# Altium footprint library SOP.PcbLib: 27 footprints (part 2 of 2)
Each footprint in its own frame and in the unit in brackets; x right, y up, seen from the top. Pads: shape width x height; smd on the part's side, far side on the other; paste and mask are expansions set on the pad; w line width, h text height; cw(c..) or ccw(c..) is an arc to the next point about the centre after c.
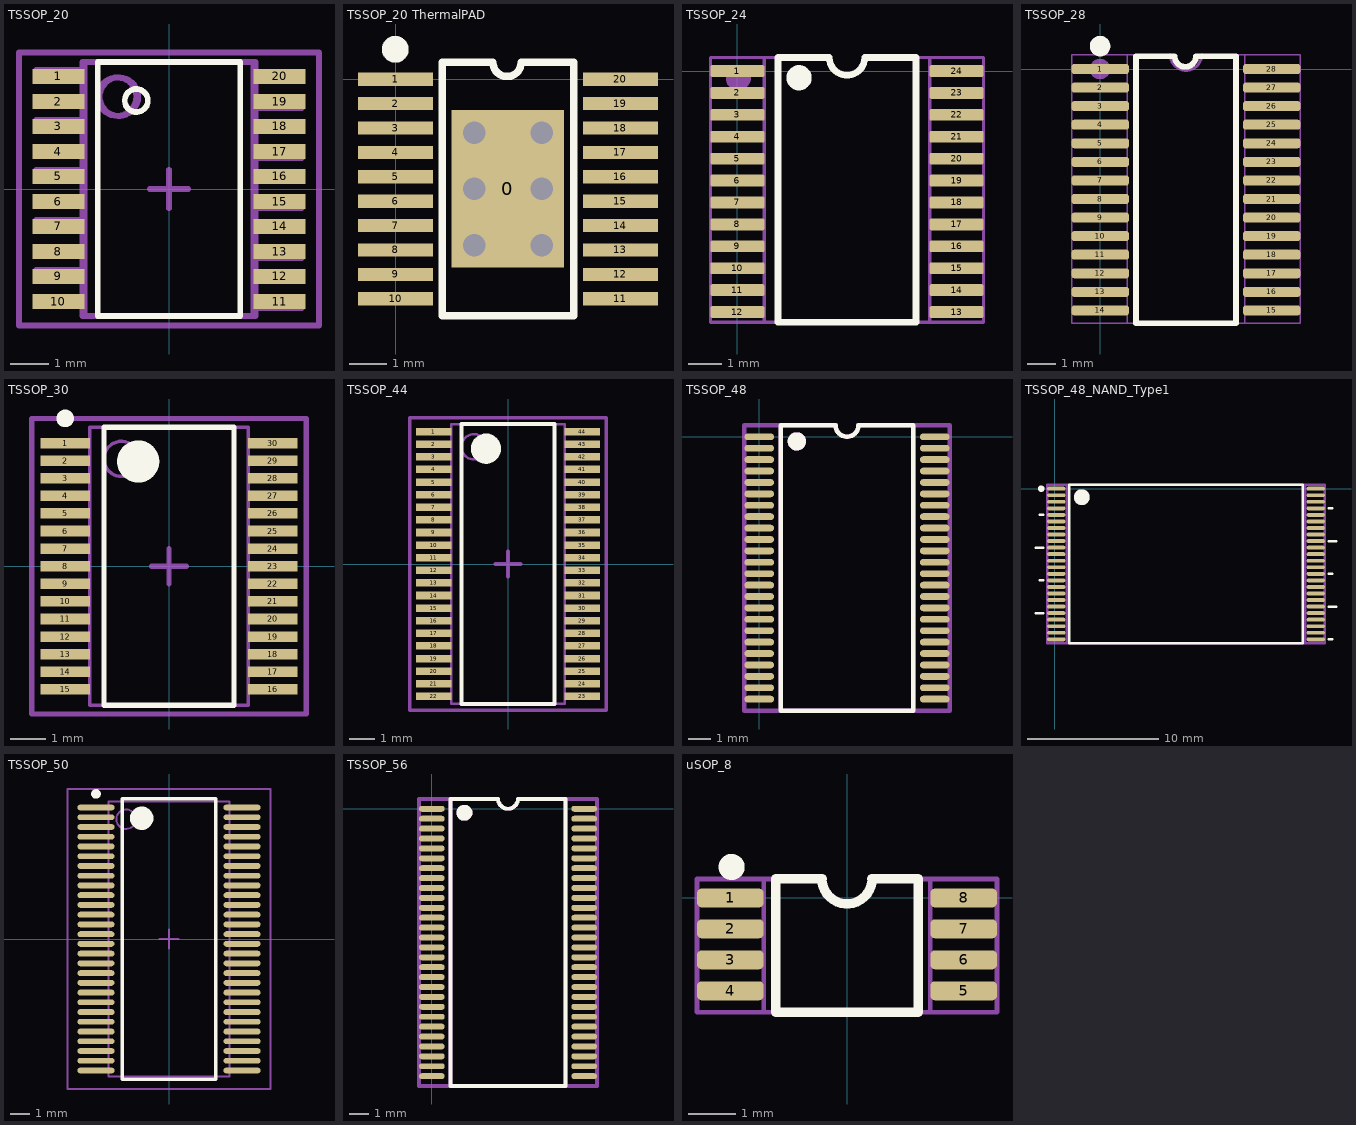
[diagram p1: the footprints below, top view; thin cyan lines are the x and y axes]

## TSSOP_20 [mm] "TSSOP, 20-Leads, Body 6,50x4,40mm, Pitch 0,65mm, IPC Medium Density"
height 1.2
pads (20):
  rect 1.35x0.4 smd: 1(-2.875,2.925) 2(-2.875,2.275) 3(-2.875,1.625) 4(-2.875,0.975) 5(-2.875,0.325) 6(-2.875,-0.325) 7(-2.875,-0.975) 8(-2.875,-1.625) 9(-2.875,-2.275) 10(-2.875,-2.925) 11(2.875,-2.925) 12(2.875,-2.275) 13(2.875,-1.625) 14(2.875,-0.975) 15(2.875,-0.325) 16(2.875,0.325) 17(2.875,0.975) 18(2.875,1.625) 19(2.875,2.275) 20(2.875,2.925)
Top Overlay:
  circle w0.15: c-0.85,2.3 r0.3
  lines w0.15: -1.85,-3.3 1.85,-3.3 1.85,3.3 -1.85,3.3 -1.85,-3.3
  text "." at -2.9,3.6 h0.1
Top Courtyard:
  lines w0.15: -0.5,0 0.5,0 ; 0,-0.5 0,0.5 ; -3.9,-3.55 3.9,-3.55 3.9,3.55 -3.9,3.55 -3.9,-3.55
Mechanical 13:
  circle w0.15: c-1.35,2.4 r0.5
  lines w0.15: -2.25,-3.3 2.25,-3.3 2.25,3.3 -2.25,3.3 -2.25,-3.3
Mechanical 29:
  circle w0.15: c-1.3,2.4 r0.5
  lines w0.15: -2.2,-3 -3.45,-3 -3.45,-2.8 -2.2,-2.8 ; -2.2,-2.3 -3.45,-2.3 -3.45,-2.1 -2.2,-2.1 ; -2.2,-1.7 -3.45,-1.7 -3.45,-1.5 -2.2,-1.5 ; -2.2,-1 -3.45,-1 -3.45,-0.8 -2.2,-0.8 ; -2.2,-0.4 -3.45,-0.4 -3.45,-0.2 -2.2,-0.2 ; -2.2,0.3 -3.45,0.3 -3.45,0.5 -2.2,0.5 ; -2.2,0.9 -3.45,0.9 -3.45,1.1 -2.2,1.1 ; -2.2,1.6 -3.45,1.6 -3.45,1.8 -2.2,1.8 ; -2.2,2.2 -3.45,2.2 -3.45,2.4 -2.2,2.4 ; -2.2,2.9 -3.45,2.9 -3.45,3.1 -2.2,3.1 ; 2.2,-3.1 3.45,-3.1 3.45,-2.9 2.2,-2.9 ; 2.2,-2.4 3.45,-2.4 3.45,-2.2 2.2,-2.2 ; 2.2,-1.8 3.45,-1.8 3.45,-1.6 2.2,-1.6 ; 2.2,-1.1 3.45,-1.1 3.45,-0.9 2.2,-0.9 ; 2.2,-0.5 3.45,-0.5 3.45,-0.3 2.2,-0.3 ; 2.2,0.2 3.45,0.2 3.45,0.4 2.2,0.4 ; 2.2,0.8 3.45,0.8 3.45,1 2.2,1 ; 2.2,1.5 3.45,1.5 3.45,1.7 2.2,1.7 ; 2.2,2.1 3.45,2.1 3.45,2.3 2.2,2.3 ; 2.2,2.8 3.45,2.8 3.45,3 2.2,3 ; -2.2,-3.3 2.2,-3.3 2.2,3.3 -2.2,3.3 -2.2,-3.3
  text ".Designator" at -3.3,3.6 h1
3D body "TSSOP-20.step": height 1.2, standoff 0, extent -3.2,-3.3 3.2,3.3

## TSSOP_20 ThermalPAD [mm]
pads (21):
  rect 3x4.2 smd: 0(3,-2.925)
  rect 2x0.35 smd: 1(0,0) 2(0,-0.65) 3(0,-1.3) 4(0,-1.95) 5(0,-2.6) 6(0,-3.25) 7(0,-3.9) 8(0,-4.55) 9(0,-5.2) 10(0,-5.85) 11(6,-5.85) 12(6,-5.2) 13(6,-4.55) 14(6,-3.9) 15(6,-3.25) 16(6,-2.6) 17(6,-1.95) 18(6,-1.3) 19(6,-0.65) 20(6,0)
via 2.1,-2.925 diameter 1.2 hole 0.6
via 3.9,-2.925 diameter 1.2 hole 0.6
via 3.9,-4.425 diameter 1.2 hole 0.6
via 2.1,-4.425 diameter 1.2 hole 0.6
via 3.9,-1.425 diameter 1.2 hole 0.6
via 2.1,-1.425 diameter 1.2 hole 0.6
Top Overlay:
  circle w0.4: c-0.008,0.8 r0.158
  lines w0.2: 1.25,-6.3 1.25,0.45 2.6,0.45 ccw(c2.975,0.45) 3.35,0.45 4.75,0.45 4.75,-6.3 1.25,-6.3
3D body "TSSOP20_TP.STEP": height 1.1, standoff -0.09, extent -0.2,-6.275 6.08,0.225

## TSSOP_24 [mm]
pads (24):
  rrect30% 1.6x0.35 smd: 1(0,0) 2(0,-0.65) 3(0,-1.3) 4(0,-1.95) 5(0,-2.6) 6(0,-3.25) 7(0,-3.9) 8(0,-4.55) 9(0,-5.2) 10(0,-5.85) 11(0,-6.5) 12(0,-7.15) 13(6.5,-7.15) 14(6.5,-6.5) 15(6.5,-5.85) 16(6.5,-5.2) 17(6.5,-4.55) 18(6.5,-3.9) 19(6.5,-3.25) 20(6.5,-2.6) 21(6.5,-1.95) 22(6.5,-1.3) 23(6.5,-0.65) 24(6.5,0)
Top Overlay:
  circle w0.4: c1.826,-0.2 r0.174
  lines w0.2: 1.2,-7.45 1.2,0.4 2.725,0.4 ccw(c3.25,0.4) 3.775,0.4 5.3,0.4 5.3,-7.45 1.2,-7.45
Mechanical 8:
  circle w0.4: c0.026,-0.2 r0.174
  lines w0.1: 0.8,-7.45 0.8,0.4 ; 5.7,-7.45 5.7,0.4 ; -0.8,-7.45 -0.8,0.4 2.7,0.4 ccw(c3.25,0.4) 3.8,0.4 7.3,0.4 7.3,-7.45 -0.8,-7.45
  text ".Designator" at 3.7,-6.95 h2.4
3D body "TSSOP24_(JEDEC_MO-153).step": height 1.2, standoff 0, extent -0.028,-7.525 6.528,0.375

## TSSOP_28 [mm]
pads (28):
  rrect50% 2x0.35 smd: 1(0,0) 2(0,-0.65) 3(0,-1.3) 4(0,-1.95) 5(0,-2.6) 6(0,-3.25) 7(0,-3.9) 8(0,-4.55) 9(0,-5.2) 10(0,-5.85) 11(0,-6.5) 12(0,-7.15) 13(0,-7.8) 14(0,-8.45) 15(6,-8.45) 16(6,-7.8) 17(6,-7.15) 18(6,-6.5) 19(6,-5.85) 20(6,-5.2) 21(6,-4.55) 22(6,-3.9) 23(6,-3.25) 24(6,-2.6) 25(6,-1.95) 26(6,-1.3) 27(6,-0.65) 28(6,0)
Top Overlay:
  circle w0.4: c-0.008,0.8 r0.158
  lines w0.2: 1.25,-8.9 4.75,-8.9 4.75,0.45 3.35,0.45 cw(c2.975,0.45) 2.6,0.45 1.25,0.45 1.25,-8.9
Mechanical 8:
  circle w0.4: c-0.008,0 r0.158
  lines w0.05: 0.95,-8.9 0.95,0.5 ; 2.45,0.5 -1,0.5 -1,-8.9 7,-8.9 7,0.5 3.55,0.5 ; 5.05,-8.9 5.05,0.5
  lines w0.1: 2.449,0.5 ccw(c3,0.5) 3.55,0.5
  text ".Designator" at 3.6,-7.7 h2
3D body "TSSOP-28_P065.STEP": height 0.98, standoff -0.01, extent -0.279,-9.041 6.121,0.659

## TSSOP_30 [mm] "TSSOP, 30-Leads, Body 7,80x4,40mm, Pitch 0,50mm, IPC Medium Density"
height 1.2
pads (30):
  rect 1.4x0.3 smd: 1(-2.95,3.5) 2(-2.95,3) 3(-2.95,2.5) 4(-2.95,2) 5(-2.95,1.5) 6(-2.95,1) 7(-2.95,0.5) 8(-2.95,0) 9(-2.95,-0.5) 10(-2.95,-1) 11(-2.95,-1.5) 12(-2.95,-2) 13(-2.95,-2.5) 14(-2.95,-3) 15(-2.95,-3.5) 16(2.95,-3.5) 17(2.95,-3) 18(2.95,-2.5) 19(2.95,-2) 20(2.95,-1.5) 21(2.95,-1) 22(2.95,-0.5) 23(2.95,0) 24(2.95,0.5) 25(2.95,1) 26(2.95,1.5) 27(2.95,2) 28(2.95,2.5) 29(2.95,3) 30(2.95,3.5)
Top Overlay:
  circle w0.6: c-0.875,2.975 r0.3
  circle w0.25: c-2.95,4.2 r0.125
  lines w0.15: -1.85,-3.95 1.85,-3.95 1.85,3.95 -1.85,3.95 -1.85,-3.95
Top Assembly:
  circle w0.1: c-1.35,3.05 r0.5
  lines w0.1: -2.25,-3.95 2.25,-3.95 2.25,3.95 -2.25,3.95 -2.25,-3.95
Top Courtyard:
  lines w0.15: -0.5,0 0.5,0 ; 0,-0.5 0,0.5 ; -3.9,-4.2 3.9,-4.2 3.9,4.2 -3.9,4.2 -3.9,-4.2
3D body "TSSOP30.step": height 1.2, standoff 0, extent -3.2,-3.95 3.2,3.95

## TSSOP_44 [mm] "TSSOP, 44-Leads, Body 11,00x4,40mm, Pitch 0,50mm, IPC Medium Density"
height 1.2
pads (44):
  rect 1.4x0.3 smd: 1(-2.95,5.25) 2(-2.95,4.75) 3(-2.95,4.25) 4(-2.95,3.75) 5(-2.95,3.25) 6(-2.95,2.75) 7(-2.95,2.25) 8(-2.95,1.75) 9(-2.95,1.25) 10(-2.95,0.75) 11(-2.95,0.25) 12(-2.95,-0.25) 13(-2.95,-0.75) 14(-2.95,-1.25) 15(-2.95,-1.75) 16(-2.95,-2.25) 17(-2.95,-2.75) 18(-2.95,-3.25) 19(-2.95,-3.75) 20(-2.95,-4.25) 21(-2.95,-4.75) 22(-2.95,-5.25) 23(2.95,-5.25) 24(2.95,-4.75) 25(2.95,-4.25) 26(2.95,-3.75) 27(2.95,-3.25) 28(2.95,-2.75) 29(2.95,-2.25) 30(2.95,-1.75) 31(2.95,-1.25) 32(2.95,-0.75) 33(2.95,-0.25) 34(2.95,0.25) 35(2.95,0.75) 36(2.95,1.25) 37(2.95,1.75) 38(2.95,2.25) 39(2.95,2.75) 40(2.95,3.25) 41(2.95,3.75) 42(2.95,4.25) 43(2.95,4.75) 44(2.95,5.25)
Top Overlay:
  circle w0.6: c-0.875,4.575 r0.3
  lines w0.15: -1.85,-5.55 1.85,-5.55 1.85,5.55 -1.85,5.55 -1.85,-5.55
  text "." at -3,5.9 h0.1
Top Assembly:
  circle w0.1: c-1.35,4.65 r0.5
  lines w0.1: -2.25,-5.55 2.25,-5.55 2.25,5.55 -2.25,5.55 -2.25,-5.55
Top Courtyard:
  lines w0.15: -0.5,0 0.5,0 ; 0,-0.5 0,0.5 ; -3.9,-5.8 -3.9,5.8 3.9,5.8 3.9,-5.8 -3.9,-5.8
3D body "TSSOP44.step": height 1.2, standoff 0, extent -3.2,-5.55 3.2,5.55

## TSSOP_48 [mm]
pads (48):
  oval 1.3x0.3 smd: 1(0,0) 2(0,-0.5) 3(0,-1) 4(0,-1.5) 5(0,-2) 6(0,-2.5) 7(0,-3) 8(0,-3.5) 9(0,-4) 10(0,-4.5) 11(0,-5) 12(0,-5.5) 13(0,-6) 14(0,-6.5) 15(0,-7) 16(0,-7.5) 17(0,-8) 18(0,-8.5) 19(0,-9) 20(0,-9.5) 21(0,-10) 22(0,-10.5) 23(0,-11) 24(0,-11.5) 25(7.7,-11.5) 26(7.7,-11) 27(7.7,-10.5) 28(7.7,-10) 29(7.7,-9.5) 30(7.7,-9) 31(7.7,-8.5) 32(7.7,-8) 33(7.7,-7.5) 34(7.7,-7) 35(7.7,-6.5) 36(7.7,-6) 37(7.7,-5.5) 38(7.7,-5) 39(7.7,-4.5) 40(7.7,-4) 41(7.7,-3.5) 42(7.7,-3) 43(7.7,-2.5) 44(7.7,-2) 45(7.7,-1.5) 46(7.7,-1) 47(7.7,-0.5) 48(7.7,0)
Top Overlay:
  circle w0.4: c1.65,-0.2 r0.2
  lines w0.2: 0.95,-12 0.95,0.5 3.35,0.5 ccw(c3.85,0.5) 4.35,0.5 6.75,0.5 6.75,-12 0.95,-12
Mechanical 8:
  circle w0.4: c1.65,-0.2 r0.2
  lines w0.2: 0.95,-12 0.95,0.5 ; 6.75,-12 6.75,0.5 ; -0.65,-12 8.35,-12 8.35,0.5 4.35,0.5 cw(c3.85,0.5) 3.35,0.5 -0.65,0.5 -0.65,-12
  text ".Designator" at 4.65,-9.95 h3.5
3D body "TSSOP48.step": height 1.1, standoff 0, extent -0.25,-12 7.85,0.5

## TSSOP_48_NAND_Type1 [mm]
pads (48):
  oval 1.4x0.3 smd: 1(0.1,0) 2(0.1,-0.5) 3(0.1,-1) 4(0.1,-1.5) 5(0.1,-2) 6(0.1,-2.5) 7(0.1,-3) 8(0.1,-3.5) 9(0.1,-4) 10(0.1,-4.5) 11(0.1,-5) 12(0.1,-5.5) 13(0.1,-6) 14(0.1,-6.5) 15(0.1,-7) 16(0.1,-7.5) 17(0.1,-8) 18(0.1,-8.5) 19(0.1,-9) 20(0.1,-9.5) 21(0.1,-10) 22(0.1,-10.5) 23(0.1,-11) 24(0.1,-11.5) 25(19.9,-11.5) 26(19.9,-11) 27(19.9,-10.5) 28(19.9,-10) 29(19.9,-9.5) 30(19.9,-9) 31(19.9,-8.5) 32(19.9,-8) 33(19.9,-7.5) 34(19.9,-7) 35(19.9,-6.5) 36(19.9,-6) 37(19.9,-5.5) 38(19.9,-5) 39(19.9,-4.5) 40(19.9,-4) 41(19.9,-3.5) 42(19.9,-3) 43(19.9,-2.5) 44(19.9,-2) 45(19.9,-1.5) 46(19.9,-1) 47(19.9,-0.5) 48(19.9,0)
Top Overlay:
  circle w0.25: c-1.05,0 r0.125
  circle w0.6: c2.05,-0.65 r0.3
  lines w0.2: -1.45,-9.5 -0.9,-9.5 ; -1.45,-4.5 -0.9,-4.5 ; -1.15,-7 -0.9,-7 ; -1.15,-2 -0.9,-2 ; 20.9,-11.5 21.15,-11.5 ; 20.9,-9 21.45,-9 ; 20.9,-6.5 21.15,-6.5 ; 20.9,-4 21.45,-4 ; 20.9,-1.5 21.15,-1.5 ; 1.1,-11.8 1.1,0.3 18.9,0.3 18.9,-11.8 1.1,-11.8
Mechanical 8:
  circle w0.6: c2.05,-0.65 r0.3
  lines w0.2: 0.9,-11.8 19.1,-11.8 ; 0.9,-11.8 0.9,0.3 ; 0.9,-11.8 -0.6,-11.8 -0.6,0.3 0.9,0.3 ; 0.9,0.3 19.1,0.3 ; 19.1,-11.8 19.1,0.3 ; 19.1,-11.8 20.6,-11.8 20.6,0.3 19.1,0.3
  text ".Designator" at 5.95,-7 h5
3D body "TSOP48-1_NAND.STEP": height 1.2, standoff 0, extent -0.1,-11.8 20.1,0.3

## TSSOP_50 [mm] "TSSOP, 56-Leads, Body 14x6.1mm, Pitch 0.5mm, IPC Low Density"
height 1.2
pads (56):
  oval 1.9x0.3 smd: 1(-3.75,6.75) 2(-3.75,6.25) 3(-3.75,5.75) 4(-3.75,5.25) 5(-3.75,4.75) 6(-3.75,4.25) 7(-3.75,3.75) 8(-3.75,3.25) 9(-3.75,2.75) 10(-3.75,2.25) 11(-3.75,1.75) 12(-3.75,1.25) 13(-3.75,0.75) 14(-3.75,0.25) 15(-3.75,-0.25) 16(-3.75,-0.75) 17(-3.75,-1.25) 18(-3.75,-1.75) 19(-3.75,-2.25) 20(-3.75,-2.75) 21(-3.75,-3.25) 22(-3.75,-3.75) 23(-3.75,-4.25) 24(-3.75,-4.75) 25(-3.75,-5.25) 26(-3.75,-5.75) 27(-3.75,-6.25) 28(-3.75,-6.75) 29(3.75,-6.75) 30(3.75,-6.25) 31(3.75,-5.75) 32(3.75,-5.25) 33(3.75,-4.75) 34(3.75,-4.25) 35(3.75,-3.75) 36(3.75,-3.25) 37(3.75,-2.75) 38(3.75,-2.25) 39(3.75,-1.75) 40(3.75,-1.25) 41(3.75,-0.75) 42(3.75,-0.25) 43(3.75,0.25) 44(3.75,0.75) 45(3.75,1.25) 46(3.75,1.75) 47(3.75,2.25) 48(3.75,2.75) 49(3.75,3.25) 50(3.75,3.75) 51(3.75,4.25) 52(3.75,4.75) 53(3.75,5.25) 54(3.75,5.75) 55(3.75,6.25) 56(3.75,6.75)
Top Overlay:
  circle w0.6: c-1.4,6.2 r0.3
  circle w0.25: c-3.75,7.45 r0.125
  lines w0.2: -2.4,-7.2 2.4,-7.2 2.4,7.2 -2.4,7.2 -2.4,-7.2
Mechanical 13:
  circle w0.1: c-2.2,6.15 r0.5
  lines w0.1: -3.1,-7.05 3.1,-7.05 3.1,7.05 -3.1,7.05 -3.1,-7.05
Mechanical 15:
  lines w0.1: -0.5,0 0.5,0 ; 0,-0.5 0,0.5 ; -5.2,-7.7 5.2,-7.7 5.2,7.7 -5.2,7.7 -5.2,-7.7
3D body "User Library-TSSOP-56 14_1x6_2.STEP": height 1.08, standoff -0.02, extent -3.95,-7.05 3.95,7.05

## TSSOP_56 [mm]
pads (56):
  oval 1.3x0.3 smd: 1(0,0) 2(0,-0.5) 3(0,-1) 4(0,-1.5) 5(0,-2) 6(0,-2.5) 7(0,-3) 8(0,-3.5) 9(0,-4) 10(0,-4.5) 11(0,-5) 12(0,-5.5) 13(0,-6) 14(0,-6.5) 15(0,-7) 16(0,-7.5) 17(0,-8) 18(0,-8.5) 19(0,-9) 20(0,-9.5) 21(0,-10) 22(0,-10.5) 23(0,-11) 24(0,-11.5) 25(0,-12) 26(0,-12.5) 27(0,-13) 28(0,-13.5) 29(7.7,-13.5) 30(7.7,-13) 31(7.7,-12.5) 32(7.7,-12) 33(7.7,-11.5) 34(7.7,-11) 35(7.7,-10.5) 36(7.7,-10) 37(7.7,-9.5) 38(7.7,-9) 39(7.7,-8.5) 40(7.7,-8) 41(7.7,-7.5) 42(7.7,-7) 43(7.7,-6.5) 44(7.7,-6) 45(7.7,-5.5) 46(7.7,-5) 47(7.7,-4.5) 48(7.7,-4) 49(7.7,-3.5) 50(7.7,-3) 51(7.7,-2.5) 52(7.7,-2) 53(7.7,-1.5) 54(7.7,-1) 55(7.7,-0.5) 56(7.7,0)
Top Overlay:
  circle w0.4: c1.65,-0.2 r0.2
  lines w0.2: 0.95,-14 0.95,0.5 3.35,0.5 ccw(c3.85,0.5) 4.35,0.5 6.75,0.5 6.75,-14 0.95,-14
Mechanical 8:
  circle w0.4: c1.65,-0.2 r0.2
  lines w0.2: 0.95,-14 0.95,0.5 ; 6.75,-14 6.75,0.5 ; -0.65,-14 8.35,-14 8.35,0.5 4.35,0.5 cw(c3.85,0.5) 3.35,0.5 -0.65,0.5 -0.65,-14
  text ".Designator" at 4.65,-9.95 h3.5
3D body "TSSOP56.stp": height 1.08, standoff 0.08, extent -0.2,-13.75 7.92,0.25

## uSOP_8 [mm]
pads (8):
  rrect50% 1.4x0.4 smd: 1(-2.45,0) 2(-2.45,-0.65) 3(-2.45,-1.3) 4(-2.45,-1.95) 5(2.45,-1.95) 6(2.45,-1.3) 7(2.45,-0.65) 8(2.45,0)
Top Overlay:
  circle w0.3: c-2.424,0.65 r0.124
  lines w0.2: -1.5,-2.4 1.5,-2.4 1.5,0.4 0.525,0.4 cw(c0,0.4) -0.525,0.4 -1.5,0.4 -1.5,-2.4
Mechanical 8:
  lines w0.1: -1.75,-2.4 -1.75,0.4 ; 1.75,-2.4 1.75,0.4 ; -3.15,-2.4 -3.15,0.4 -0.525,0.4 ccw(c0,0.4) 0.525,0.4 3.15,0.4 3.15,-2.4 -3.15,-2.4
  text ".Designator" at -1.5,-1.4 h1.5
3D body "usop-8.step": height 1.1, standoff 0, extent -2.54,-2.515 2.49,0.585